# EAGLE library part MCP4541-103E/MS (library comms)
Digital POT
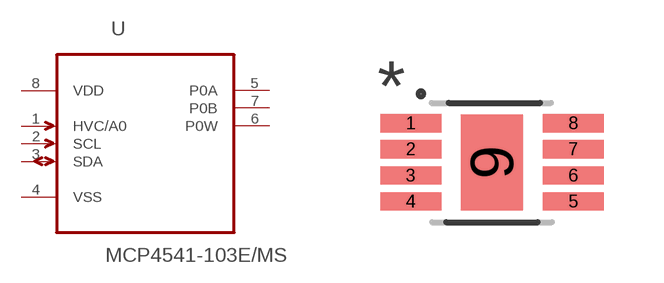
[diagram p6: symbol with the pads of SOP65P490X110-8N; footprint SOP65P490X110-8N]

Designator prefix U

## MCP4541-103E/MS (MANUFACTUER_PN: MCP4541-103E/MS; MANUFACTURER: Microchip; MPN: MCP4541-103E/MS; OC_FARNELL: 1698945; OC_NEWARK: 77M2864; PACKAGE: SOP-8; VALUE: MCP4541-103E/MS; VENDOR: Digi-Key; VENDOR_PN: MCP4541T-103E/MFCT-ND)  [SOP65P490X110-8N]
1  HVC/A0  in
2  SCL  in
3  SDA
4  VSS  pwr
5  P0A  pas
6  P0W  pas
7  P0B  pas
8  VDD  pwr

## Footprint SOP65P490X110-8N (pad centres in mm)
smd 1.524 x 0.457: 1 -2.032,0.98; 2 -2.032,0.33; 3 -2.032,-0.33; 4 -2.032,-0.98; 5 2.032,-0.98; 6 2.032,-0.33; 7 2.032,0.33; 8 2.032,0.98
smd 1.549 x 2.4: 9 0,0